# EAGLE library part OPT3001DNPT (library OPT3001DNPT)
Texas Instruments OPT3001DNPT, Light Sensor IC, 850 nm I2C 1.6 3.6 V 6-Pin USON Source: Datasheet <http://www.ti.com/lit/ds/symlink/opt3001.pdf>
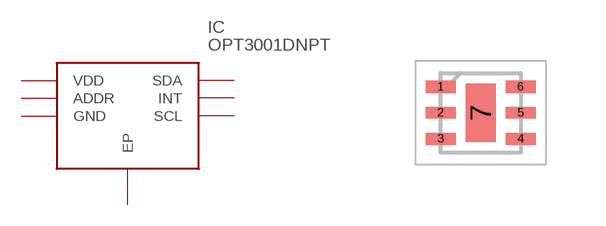
[diagram p0: symbol with the pads of SON65P200X200X65-7N; footprint SON65P200X200X65-7N]

Designator prefix IC

## OPT3001DNPT (ARROW_PART_NUMBER: OPT3001DNPT; ARROW_PRICE-STOCK: https://www.arrow.com/en/products/opt3001dnpt/texas-instruments; DESCRIPTION: Texas Instruments OPT3001DNPT, Light Sensor IC, 850 nm I2C 1.6 3.6 V 6-Pin USON; HEIGHT: 0.65mm; MANUFACTURER_NAME: Texas Instruments; MANUFACTURER_PART_NUMBER: OPT3001DNPT; MOUSER_PART_NUMBER: 595-OPT3001DNPT; MOUSER_PRICE-STOCK: https://www.mouser.co.uk/ProductDetail/Texas-Instruments/OPT3001DNPT/?qs=bZA2O%252B%252B1GJuaPOlT9r7Pew%3D%3D)  [SON65P200X200X65-7N]
1  VDD
2  ADDR
3  GND
4  SCL
5  INT
6  SDA
7  EP

## Footprint SON65P200X200X65-7N (pad centres in mm)
OPT3001DNPT
smd 0.75 x 0.3: 1 -1,0.65; 2 -1,0; 3 -1,-0.65; 4 1,-0.65; 5 1,0; 6 1,0.65
smd 0.75 x 1.45: 7 0,0